# Altium integrated library PMOS.IntLib: 10 symbols
Pins are listed as number, name and electrical type; pins without a type are passive.

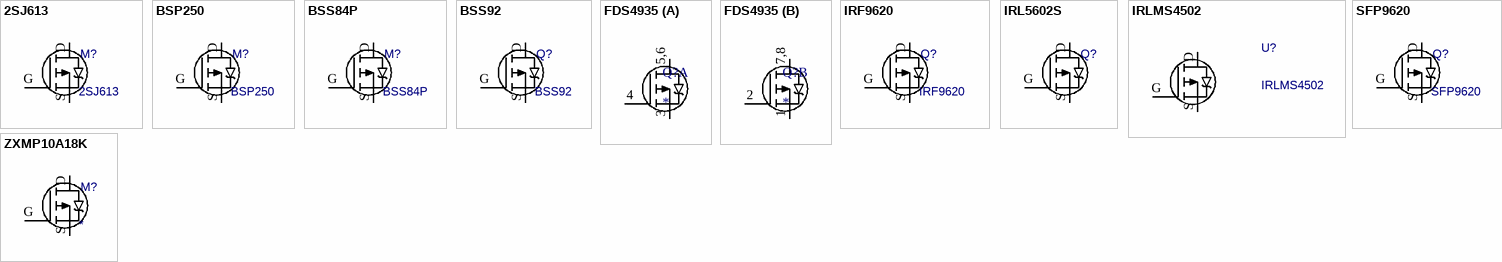
[diagram p0: symbols 2SJ613 to ZXMP10A18K]

## 2SJ613
designator M?
Value: {Value}
footprint SOT89_M (SOT89, 3-Leads, Body 4.50x2.45mm, Pitch 1.50mm, Lead Span 4.1mm, IPC Low Density); pin to pad D>2 G>1 S>3
pins: D, G, S

## BSP250
designator M?
Value: {Value}
footprint SOT223_M (Small Outline Transistor (SOT223), 2.30 mm pitch; 4 pin, 6.50 mm L X 3.50 mm W X 1.80 mm H body); pin to pad D>2+4 G>1 S>3
footprint SOT223_L (Small Outline Transistor (SOT223), 2.30 mm pitch; 4 pin, 6.50 mm L X 3.50 mm W X 1.80 mm H body); pin to pad D>2+4 G>1 S>3
footprint SOT223_N (Small Outline Transistor (SOT223), 2.30 mm pitch; 4 pin, 6.50 mm L X 3.50 mm W X 1.80 mm H body); pin to pad D>2+4 G>1 S>3
pins: D, G, S

## BSS84P
designator M?
Value: {Value}
footprint SOT23-3_M (Small Outline Transistor (SOT23), 0.96 mm pitch; 3 pin, 2.92 mm L X 1.30 mm W X 1.12 mm H body); pin to pad D>3 G>1 S>2
footprint SOT23-3_L (Small Outline Transistor (SOT23), 0.96 mm pitch; 3 pin, 2.92 mm L X 1.30 mm W X 1.12 mm H body); pin to pad D>3 G>1 S>2
footprint SOT23-3_N (Small Outline Transistor (SOT23), 0.96 mm pitch; 3 pin, 2.92 mm L X 1.30 mm W X 1.12 mm H body); pin to pad D>3 G>1 S>2
pins: D, G, S

## BSS92
designator Q?
Value: {Value}
footprint TO-92; pin to pad D>2 G>3 S>1
pins: D, G, S

## FDS4935
designator Q?
Dual P-ch, Ids=6.9A, Vdss=30V, Rdson=35m
footprint SOIC8N_L (Small Outline IC (SOIC), 1.27 mm pitch; 8 pin, 4.90 mm L X 3.90 mm W X 1.75 mm H body)
footprint SOIC8N_M (Small Outline IC (SOIC), 1.27 mm pitch; 8 pin, 4.90 mm L X 3.90 mm W X 1.75 mm H body)
footprint SOIC8N_N (Small Outline IC (SOIC), 1.27 mm pitch; 8 pin, 4.90 mm L X 3.90 mm W X 1.75 mm H body)
part A pins: 3 S1, 4 G1, 5 D1, 6 D1
part B pins: 1 S2, 2 G2, 7 D2, 8 D2
part A text: 5,6
part B text: 7,8

## IRF9620
designator Q?
Value: {Value}
footprint TO-220AB vertical
footprint TO-220AB horizontal
footprint TO-220AB vertical + HS
footprint TO-220AB vertical + HS2
pins: D, G, S

## IRL5602S
designator Q?
HEX-FET Vdss=-20V, Id=-24A, Rdson=0.024R; Value: {Value}
footprint D2PAK_TO263_M (DPAK, 5.08 mm pitch; 2 pin, 9.015 mm L X 10.16 mm W X 4.65 mm H body); pin to pad D>3 G>1 S>2
footprint D2PAK_TO263_L (DPAK, 5.08 mm pitch; 2 pin, 9.015 mm L X 10.16 mm W X 4.65 mm H body); pin to pad D>3 G>1 S>2
footprint D2PAK_TO263_N (DPAK, 5.08 mm pitch; 2 pin, 9.015 mm L X 10.16 mm W X 4.65 mm H body); pin to pad D>3 G>1 S>2
pins: D, G, S

## IRLMS4502
designator U?
Value: {Value}
footprint MICRO6_L (Small Outline Pkg (SOP), 0.95 mm pitch; 6 pin, 2.90 mm L X 1.625 mm W X 1.45 mm H body); pin to pad D>1+2+5+6 G>3 S>4
footprint MICRO6_M (Small Outline Pkg (SOP), 0.95 mm pitch; 6 pin, 2.90 mm L X 1.625 mm W X 1.45 mm H body); pin to pad D>1+2+5+6 G>3 S>4
footprint MICRO6_N (Small Outline Pkg (SOP), 0.95 mm pitch; 6 pin, 2.90 mm L X 1.625 mm W X 1.45 mm H body); pin to pad D>1+2+5+6 G>3 S>4
pins: D, G, S

## SFP9620
designator Q?
Value: {Value}
footprint TO-220AB horizontal
footprint TO-220AB vertical
footprint TO-220AB vertical + HS
footprint TO-220AB vertical + HS2
pins: D, G, S

## ZXMP10A18K
designator M?
P-MOS -100V -5A,-4V; Value: {Value}
footprint DPAK_TO252_L (DPAK, 5.08 mm pitch; 2 pin, 6.10 mm L X 6.575 mm W X 2.38 mm H body); pin to pad D>3 G>1 S>2
footprint DPAK_TO252_M (DPAK, 5.08 mm pitch; 2 pin, 6.10 mm L X 6.575 mm W X 2.38 mm H body); pin to pad D>3 G>1 S>2
footprint DPAK_TO252_N (DPAK, 5.08 mm pitch; 2 pin, 6.10 mm L X 6.575 mm W X 2.38 mm H body); pin to pad D>3 G>1 S>2
pins: D, G, S